# Altium footprint library WR-LECO.PcbLib: 17 footprints (part 2 of 2)
Each footprint in its own frame and in the unit in brackets; x right, y up, seen from the top. Pads: shape width x height; smd on the part's side, far side on the other; paste and mask are expansions set on the pad; w line width, h text height; cw(c..) or ccw(c..) is an arc to the next point about the centre after c.
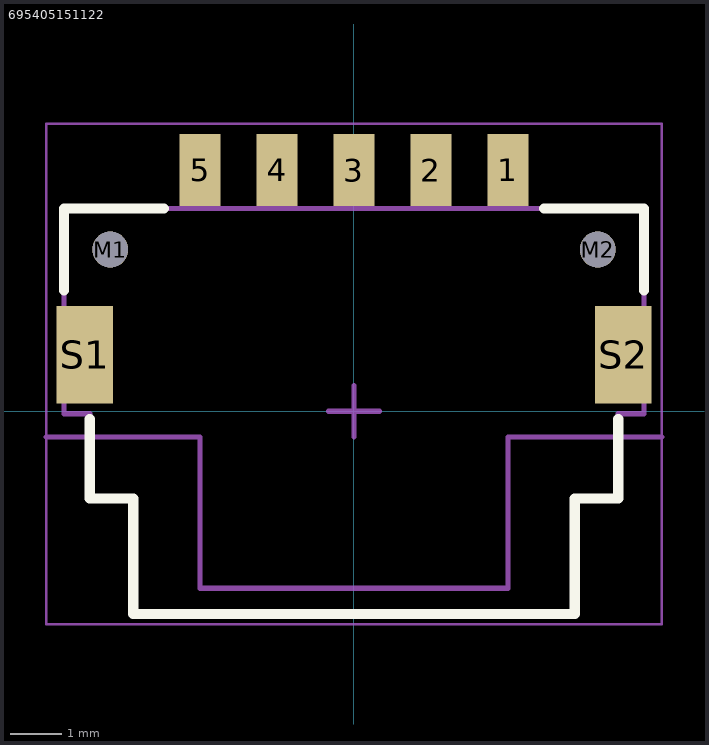
[diagram p1: the footprint, top view; thin cyan lines are the x and y axes]

## 695405151122 [mm] "Horizontal SMT Receptacle_ 5 pins"
height 2.45
pads (9):
  rect 0.8x1.4 smd: 1(3,4.7) 2(1.5,4.7) 3(0,4.7) 4(-1.5,4.7) 5(-3,4.7)
  round 0.7 hole 0.7 unplated: M1(-4.75,3.15) M2(4.75,3.15)
  rect 1.1x1.9 smd: S1(-5.25,1.1) S2(5.25,1.1)
Top Overlay:
  lines w0.2: -5.65,2.35 -5.65,3.95 -3.7,3.95 ; -5.15,-0.15 -5.15,-1.7 -4.3,-1.7 -4.3,-3.95 4.3,-3.95 4.3,-1.7 5.15,-1.7 5.15,-0.15 ; 3.7,3.95 5.65,3.95 5.65,2.35
Assembly Notes:
  lines w0.1: -6,-0.5 -3,-0.5 -3,-3.45 3,-3.45 3,-0.5 6,-0.5
  text "PCB Edge" at -2.38,-4.397 h0.7
Top Assembly:
  lines w0.1: -3.2,3.95 -3.2,5.05 -2.8,5.05 -2.8,3.95 ; -1.7,3.95 -1.7,5.05 -1.3,5.05 -1.3,3.95 ; -0.2,3.95 -0.2,5.05 0.2,5.05 0.2,3.95 ; 1.3,3.95 1.3,5.05 1.7,5.05 1.7,3.95 ; 2.8,3.95 2.8,5.05 3.2,5.05 3.2,3.95 ; -5.65,-0.05 -5.15,-0.05 -5.15,-1.7 -4.3,-1.7 -4.3,-3.95 4.3,-3.95 4.3,-1.7 5.15,-1.7 5.15,-0.05 5.65,-0.05 5.65,3.95 -5.65,3.95 -5.65,-0.05
Top Designator:
  text ".Designator" at -3.647,-0.357 h1
Top 3D Body:
  lines w0.1: -3.2,3.95 -3.2,5.05 -2.8,5.05 -2.8,3.95 ; -1.7,3.95 -1.7,5.05 -1.3,5.05 -1.3,3.95 ; -0.2,3.95 -0.2,5.05 0.2,5.05 0.2,3.95 ; 1.3,3.95 1.3,5.05 1.7,5.05 1.7,3.95 ; 2.8,3.95 2.8,5.05 3.2,5.05 3.2,3.95 ; -5.65,-0.05 -5.15,-0.05 -5.15,-1.7 -4.3,-1.7 -4.3,-3.95 4.3,-3.95 4.3,-1.7 5.15,-1.7 5.15,-0.05 5.65,-0.05 5.65,3.95 -5.65,3.95 -5.65,-0.05
Top Courtyard:
  lines w0.05: -6,-4.15 -6,5.6 6,5.6 6,-4.15 -6,-4.15
Top Component Center:
  lines w0.1: -0.5,0 0.5,0 ; 0,-0.5 0,0.5
3D body "695405151122.stp": height 2.47, standoff -0.39, extent -5.65,-3.95 5.65,5.05